# EAGLE library part JN3 (library yuri_lib)
JN3 Telit wireless Solutions GPS This design was from the Hardware Guide of Telit Wireless Information. Use it as per your discretion Drawn in Eagle by Yuri Poledna, 2020
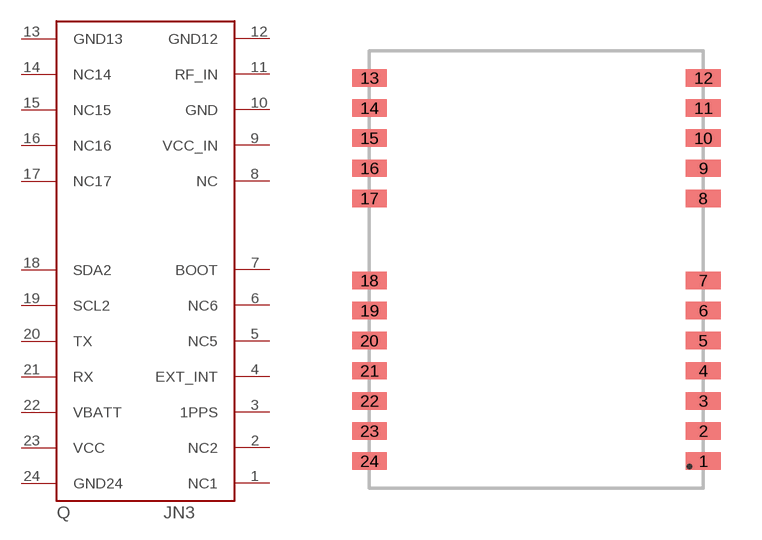
[diagram p0: symbol with the pads of GPS; footprint GPS]

Designator prefix Q

## JN3  [GPS]
1  NC1
2  NC2
3  1PPS
4  EXT_INT
5  NC5
6  NC6
7  BOOT
8  NC
9  VCC_IN
10  GND
11  RF_IN
12  GND12
13  GND13
14  NC14
15  NC15
16  NC16
17  NC17
18  SDA2
19  SCL2
20  TX
21  RX
22  VBATT
23  VCC
24  GND24

## Footprint GPS (pad centres in mm)
smd 1.27 x 0.635: 1 0,1; 2 0,2.1; 3 0,3.2; 4 0,4.3; 5 0,5.4; 6 0,6.5; 7 0,7.6; 8 0,10.6; 9 0,11.7; 10 0,12.8; 11 0,13.9; 12 0,15; 13 -12.2,15; 14 -12.2,13.9; 15 -12.2,12.8; 16 -12.2,11.7; 17 -12.2,10.6; 18 -12.2,7.6; 19 -12.2,6.5; 20 -12.2,5.4; 21 -12.2,4.3; 22 -12.2,3.2; 23 -12.2,2.1; 24 -12.2,1